# EAGLE library part 571 (library Silicon Labs)
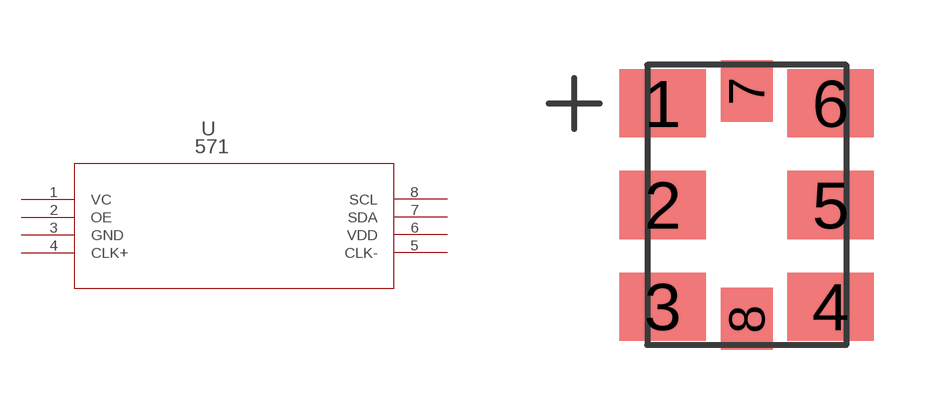
[diagram p12: symbol with the pads of SI571_8_5X7; footprint SI571_8_5X7]

Designator prefix U

## 571 (MANUFACTURER_PART_NUMBER: 571; VENDOR: SILICONLABS)  [SI571_8_5X7]
1  VC  nc
2  OE  in
3  GND  pwr
4  CLK+  out
5  CLK-  out
6  VDD  pwr
7  SDA
8  SCL  in

## Footprint SI571_8_5X7 (pad centres in mm)
smd 2.159 x 1.702: 1 -2.1,2.54; 2 -2.1,0; 3 -2.1,-2.54; 4 2.1,-2.54; 5 2.1,0; 6 2.1,2.54
smd 1.295 x 1.549: 7 0,2.85; 8 0,-2.85